# EAGLE library part PA91 (library opamps)
PA91: High voltage power opamp (Apex) ±225V, ±200mA, 500pA bias 2mV offset, 100MHz UGF, 4nV/rt(Hz) noise
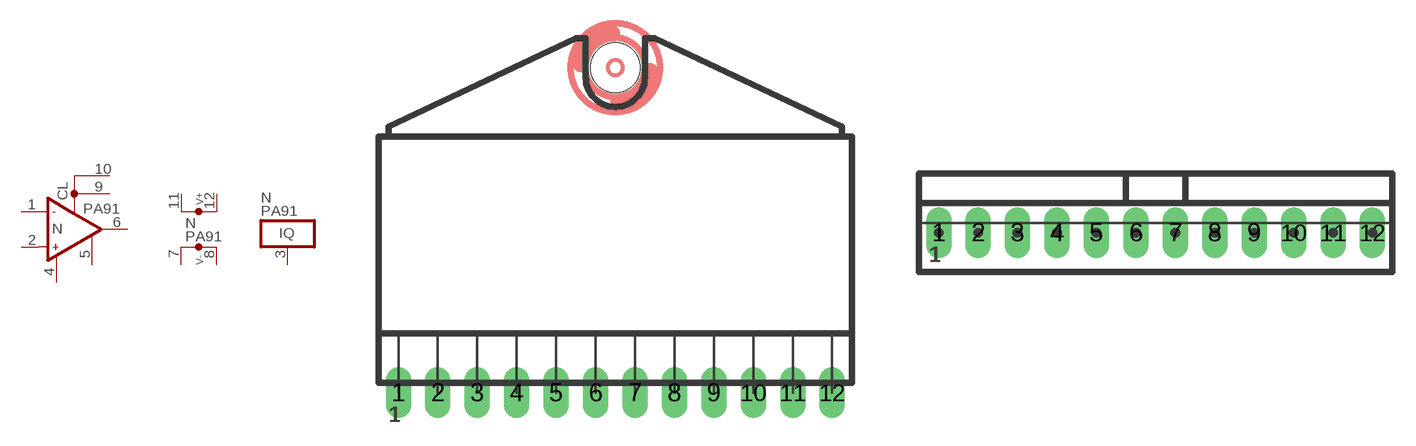
[diagram p250: symbol with the pads of SIP03H; footprints SIP03H, SIP03V]

Designator prefix N; gates A=OP_PA98 P=V2+2-B I=PA91_IQ

## PA91H  [SIP03H]
1  A:IN-  in
2  A:IN+  in
3  I:IQ
4  A:OPC1
5  A:OPC2
6  A:OUT  out
7  P:V-  pwr
8  P:V-  pwr
9  A:CL
10  A:CL
11  P:V+  pwr
12  P:V+  pwr

## PA91  [SIP03V]
Pads as for SIP03H

## PA91S  [SIP03S]
Pads as for SIP03H

## PA91V  [SIP03V]
Pads as for SIP03H

## Footprint SIP03H (pad centres in mm)
SIP03, horizontal mounting Power package, 12 pins (Apex)
drill 0.889 pad 1.651 long: 1 -13.97,0; 2 -11.43,0; 3 -8.89,0; 4 -6.35,0; 5 -3.81,0; 6 -1.27,0; 7 1.27,0; 8 3.81,0; 9 6.35,0; 10 8.89,0; 11 11.43,0; 12 13.97,0
hole 3.2 at 0,20.955

## Footprint SIP03V (pad centres in mm)
SIP03, vertical mounting Power package, 12 pins (Apex)
drill 0.889 pad 1.651 long: 1 -13.97,0; 2 -11.43,0; 3 -8.89,0; 4 -6.35,0; 5 -3.81,0; 6 -1.27,0; 7 1.27,0; 8 3.81,0; 9 6.35,0; 10 8.89,0; 11 11.43,0; 12 13.97,0

## Footprint SIP03S (pad centres in mm)
SIP03, horizontal mounting, SMD pads Power package, 12 pins (Apex)
smd 1.651 x 5.08: 1 -13.97,0; 2 -11.43,0; 3 -8.89,0; 4 -6.35,0; 5 -3.81,0; 6 -1.27,0; 7 1.27,0; 8 3.81,0; 9 6.35,0; 10 8.89,0; 11 11.43,0; 12 13.97,0
hole 3.2 at 0,26.035